# Altium integrated library TE Relays, Contactors and Switches.IntLib: 24 symbols
Pins are listed as number, name and electrical type; pins without a type are passive.

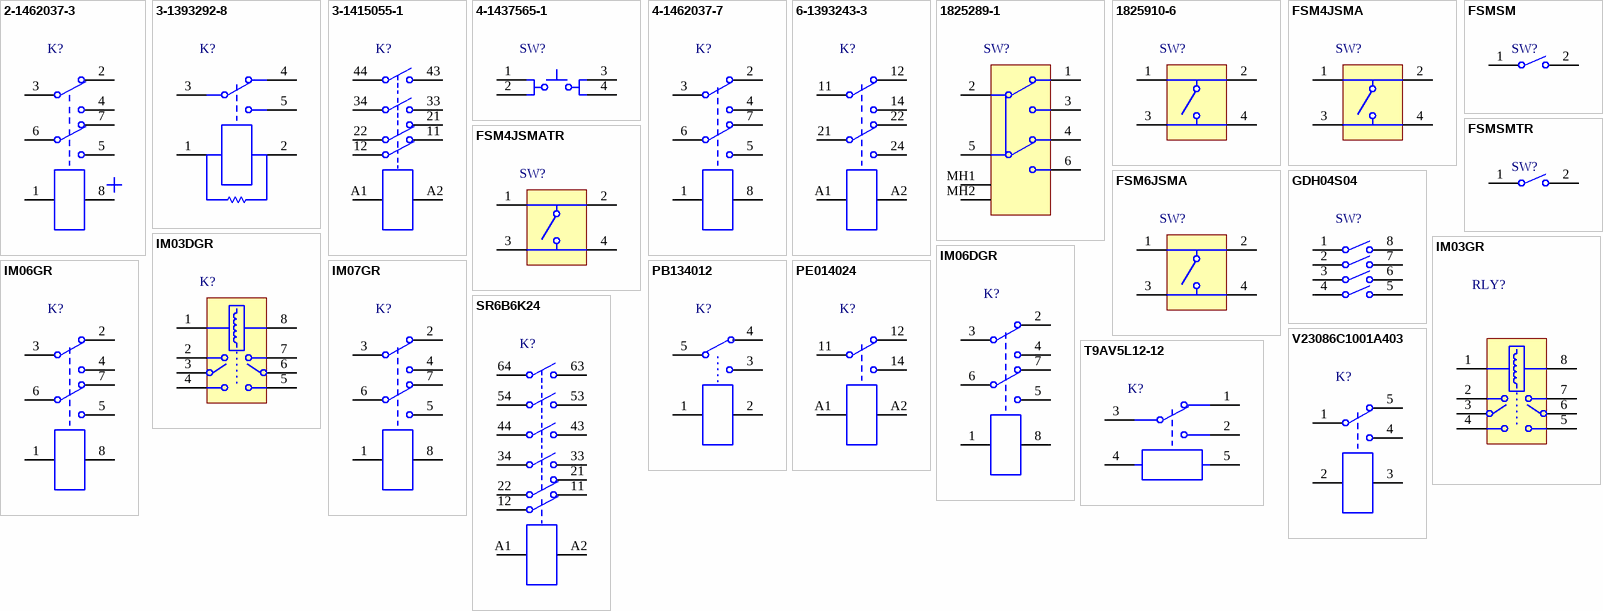
[diagram p0: symbols 2-1462037-3 to V23086C1001A403]

## 2-1462037-3
designator K?
Signal Relay, 2 A, 12 VDC, -40 to 85 degC, 8-Pin SMD, RoHS, Tape and Reel; Pick-up Voltage (Max): 9VDC; Voltage Rating (VAC): 250V; Dropout Volt: 1.2VDC; Relay Construction: Non-Latching; Product Length (mm): 10mm; Coil Suppression Diode: No; Contact Current Rating: 2A; Voltage Rating (VDC): 220; Seal: Unsealed; Contact Form: 2 Form C; Maximum Power Rating: 60W/62.5VA; Product Depth (mm): 7.5mm; Contact Arrangement: DPDT; Coil Voltage DC: 12V; Coil Resistance: 1.029kohm; Product Height (mm): 5.65mm; Operate Time: 1ms; Coil Current: 11.67mA; DatasheetVersion: Rev. 0517; PackageReference: SMD; PackageDescription: SMT, 8-Leads, Body 10x6mm; Supplier 1: Farnell; Supplier Part Number 1: 2060795; Mounting Style: Surface Mount; Packaging: Tape and Reel; Push To Test Button: No; LED Indicator: No; Pin Count: 8; Type: Signal Relay; Contact Material: Palladium Ruthenium/Gold; Operating Temp Range: -40C to 85C; Termination Style: Gull Wing; ComponentLink1Description: Manufacturer URL; ComponentLink1URL: http://www.te.com; ComponentLink2Description: Datasheet; ComponentLink2URL: http://www.te.com/commerce/DocumentDelivery/DDEController?Action=srchrtrv&DocNm=108-98001&DocType=SS&DocLang=EN
footprint TECO-2-1462037-3_V (SMT, 8-Leads, Body 10x6mm)
pins: 1, 2, 3, 4, 5, 6, 7, 8

## 3-1393292-8
designator K?
Micro Relay A, SPDT, 24 V, -40 to 125 degC, 5-Pin THD, RoHS, Bulk; Relay Construction: Non-Latching; Product Length (mm): 23 mm; Rad Hardened: No; Seal: Unsealed; Contact Form: 1 Form C; Product Depth (mm): 15.5 mm; Coil Voltage DC: 24V; Coil Resistance: 354 ohm; Product Height (mm): 25.4 mm; Operate Time: 5 ms; Coil Current: 67.79 mA; PackageReference: THD; PackageDescription: 5-Pin Through Hole Device, Body 23 x 15.5 mm; Supplier 1: Newark; Supplier Part Number 1: 10R4991; Supplier 2: Farnell; Supplier Part Number 2: 2520591; Coil Suppression Diode: No; Package / Case: Dust Cover; Mounting Style: Plug-In; Push To Test Button: No; LED Indicator: No; Pin Count: 5; Contact Arrangement: SPDT; Type: Micro ISO Relay; Contact Material: Silver Tin Oxide; Operating Temp Range: -40C to 125C; Termination Style: 0.25Quick Connect; ComponentLink1Description: Manufacturer URL; ComponentLink1URL: http://www.te.com; ComponentLink2Description: Datasheet; ComponentLink2URL: http://datasheet.octopart.com/3-1393292-8-TE-Connectivity---AMP-datasheet-60565855.pdf
footprint TECO-3-1393292-8 (THD, 5-Leads, Body 23x15.5mm)
pins: 1, 2, 3, 4, 5

## 3-1415055-1
designator K?
Force Guided Relay SR4 D/M, 24 V, 8 A, -25 to 70 degC, 10-Pin THD, RoHS, Box and Tube; Pick-up Voltage (Max): 18VDC; Voltage Rating (VAC): 400V; Dropout Volt: 2.4VDC; Relay Construction: Non-Latching; Product Length (mm): 40 mm; Rad Hardened: No; Contact Current Rating: 8 A; Seal: Unsealed; Contact Form: 2 Form A/2 Form B; Maximum Power Rating: 2KVA; Product Depth (mm): 13 mm; Contact Arrangement: DPST-NO/DPST-NC; Coil Voltage DC: 24V; Coil Resistance: 720 ohm; Product Height (mm): 16.5 mm; Coil Current: 33.33 mA; DatasheetVersion: Rev. 0415; PackageReference: THD; PackageDescription: 10-Pin Through Hole device, Body 40 x 13 mm; Supplier 1: Newark; Supplier Part Number 1: 24M7822; Supplier 2: Farnell; Supplier Part Number 2: 1175093; Supplier 3: Digi-Key; Supplier Part Number 3: PB661-ND; Dropout Volt (Min): 2.4VDC; Coil Suppression Diode: No; Package / Case: Dust Cover; Packaging: Tube; Mounting Style: Through Hole; Push To Test Button: No; LED Indicator: No; Pin Count: 10; Type: Safety Relay; Contact Material: AgSnO2; Operating Temp Range: -25C to 70C; Termination Style: PC Pin; ComponentLink1Description: Manufacturer URL; ComponentLink1URL: http://www.te.com; ComponentLink2Description: Datasheet; ComponentLink2URL: http://www.te.com/commerce/DocumentDelivery/DDEController?Action=showdoc&DocId=Data+Sheet%7FSR4_D%2FM%7F0415%7Fpdf%7FEnglish%7FENG_DS_SR4_DXM_0415.pdf%7F3-1415055-1
footprint TECO-3-1415055-1-10_V (THD, 10-Leads, Body 40x13mm)
pins: 11, 12, 21, 22, 33, 34, 43, 44, A1, A2

## 4-1437565-1
designator SW?
Tactile Switch, 50 mA, 12 VDC, -20 to 85 degC, 4-Pin SMD, RoHS, Bulk; Operating Force: 1.57 N; Maximum Contact Resistance: 100 mOhm; Electrical Life: 100000 Cycle; Body Orientation: Straight; Maximum DC Voltage Rating: 12 V; Actuator Length: 1.4 mm; Contact Rating @ Voltage: 0.05@12VDC A; Actuator Style: Round Button; Ground Terminal: No; Illumination Type: N/R; Dielectric Strength: 500 VAC; PackageReference: SMD; PackageDescription: 4-Pin Surface Mount Device, Body 6 x 6 mm, Pitch 9.1 mm; Supplier 1: Newark; Supplier Part Number 1: 93K3887; Supplier 2: Farnell; Supplier Part Number 2: 3801305; Supplier 3: Digi-Key; Supplier Part Number 3: 450-1129-ND; Base Material: N/A; Switch Configuration: N/A; Operating Temperature: -20 to 85 C; Seal Description: N/A; Seal Location: N/A; Maximum AC Voltage Rating: N/A; RoHS: Yes; Packaging: Bulk; Dimension: 6 x 10 x 5.25 mm; Mounting: Surface Mount,Gull Wing; Family: FSMJSMA; Housing Material: N/A; Actuator Color: N/A; Product Weight: N/A; Contact Plating: Silver; Type: N/A; Contact Material: Copper Alloy; Minimum Insulation Resistance: 100 MOhm; Mechanical Life: N/A; Pole Throw Configuration: N/A; ComponentLink1Description: Manufacturer URL; ComponentLink1URL: http://www.te.com; ComponentLink2Description: Datasheet; ComponentLink2URL: https://datasheet.ciiva.com/14635/0900766b80912216-14635826.pdf
footprint TECO-4-1437565-1_V (SMD, 4-Leads, Body 6x6mm, Pitch 9.1mm)
pins: 1, 2, 3, 4

## 4-1462037-7
designator K?
Signal Relay, 24 VDC, 200 mW, -40 to 85 degC, 8-Pin SMD, RoHS, Tape and Reel; Pick-up Voltage (Max): 18VDC; Voltage Rating (VAC): 250V; Dropout Volt: 2.4VDC; Relay Construction: Non-Latching; DELETED: Compliant; Product Length (mm): 10 mm; Rad Hardened: No; Contact Current Rating: 2 A; Voltage Rating (VDC): 220V; Seal: Unsealed; Contact Form: 2 Form C; Maximum Power Rating: 60W/62.5VA; Product Depth (mm): 7.5 mm; Contact Arrangement: DPDT; Coil Voltage DC: 24V; Coil Resistance: 2880 ohm; Product Height (mm): 5.65 mm; Operate Time: 1 ms; Coil Current: 8.33 mA; DatasheetVersion: Rev. 0116; PackageReference: SMD; PackageDescription: 8-Pin Surface Mount Device, Body 10 x 6 mm, Height 5.65 mm; Supplier 1: Farnell; Supplier Part Number 1: 2060825; Dropout Volt (Min): 2.4VDC; Coil Suppression Diode: No; Packaging: Tape and Reel; Mounting Style: Surface Mount; Push To Test Button: No; LED Indicator: No; Pin Count: 8; Type: Signal Relay; Contact Material: PdRu/Au; Operating Temp Range: -40C to 85C; Termination Style: Gull Wing; ComponentLink1Description: Manufacturer URL; ComponentLink1URL: http://www.te.com; ComponentLink2Description: Datasheet; ComponentLink2URL: http://www.te.com/commerce/DocumentDelivery/DDEController?Action=showdoc&DocId=Specification+Or+Standard%7F108-98001%7FW%7Fpdf%7FEnglish%7FENG_SS_108-98001_W.pdf%7F4-1462037-7
footprint TECO-IMXXXGX-8_V (SMD, 8-Leads, Body 10x6mm, Height 5.65mm)
pins: 1, 2, 3, 4, 5, 6, 7, 8

## 6-1393243-3
designator K?
Power PCB Relay RT2 DC and AC (for Global Markets), 12 V, 8 A, -40 to 85 degC, 8-Pin THD, RoHS, Tube; Pick-up Voltage (Max): 8.4VDC; Voltage Rating (VAC): 400V; Dropout Volt: 1.2VDC; Relay Construction: Non-Latching; Product Length (mm): 29mm; Coil Suppression Diode: No; Contact Current Rating: 15A; Seal: Flux; Contact Form: 2 Form C; Maximum Power Rating: 2KVA; Product Depth (mm): 12.7mm; Contact Arrangement: DPDT; Coil Voltage DC: 12V; Coil Resistance: 360ohm; Product Height (mm): 15.7mm; Operate Time: 8ms; Coil Current: 33.3mA; DatasheetVersion: Rev. 1014; PackageReference: THD; PackageDescription: 6-Pin Through Hole device, Body 29 x 12.7 mm; Supplier 1: Newark; Supplier Part Number 1: 64J9382; Package / Case: DIP; Mounting Style: Through Hole; Packaging: Tube or Box; Push To Test Button: No; LED Indicator: No; Pin Count: 8; Type: Power Relay; Contact Material: Silver Nickel 90/10; Operating Temp Range: -40C to 85C; Termination Style: PC Pin; ComponentLink1Description: Manufacturer URL; ComponentLink1URL: http://www.te.com; ComponentLink2Description: Datasheet; ComponentLink2URL: http://www.te.com/commerce/DocumentDelivery/DDEController?Action=showdoc&DocId=Data+Sheet%7FRT2%7F1014%7Fpdf%7FEnglish%7FENG_DS_RT2_1014.pdf%7F6-1393243-3
footprint TECO-6-1393243-3_V (THD, 6-Leads, Body 29x12.7mm)
pins: 11, 12, 14, 21, 22, 24, A1, A2

## 1825289-1
designator SW?
Slide Switch, MHS Series, Double Pole, Vertical, 125 V (AC), -20 to 85 degC, 6-Pin THD, RoHS, Bulk; Seal Description: Epoxy; Seal Location: Terminals; Maximum AC Voltage Rating: 125 V; Maximum Contact Resistance: 30 mOhm; Electrical Life: 15000 Cycles; Body Orientation: Straight; Contact Rating @ Voltage: 0.3@125VAC A; Actuator Style: Top Slide; Actuator Color: Black; Actuator Material: Thermoplastic; Minimum Insulation Resistance: 1000 MOhm; Pole Throw Configuration: DPDT; Dielectric Strength: 500 Vrms; PackageReference: THD; PackageDescription: 6-Pin Through Hole Device, Body 16 x 6.7 mm, Height 12.05 mm; Supplier 1: Farnell; Supplier Part Number 1: 1570883; Supplier 2: Digi-Key; Supplier Part Number 2: 450-1572-ND; Base Material: N/A; Switch Configuration: N/A; Operating Temperature: -20 to 85 C; RoHS: Yes; Packaging: Tray; Dimension: 16 x 6.7 x 12 mm; Mounting: Through Hole,PC Pins; Family: 1825289; Housing Material: N/A; Maximum DC Voltage Rating: N/A; Product Weight: N/A; Contact Plating: Silver; Type: Low Profile; Contact Material: Copper Alloy; Mechanical Life: N/A; ComponentLink1Description: Manufacturer URL; ComponentLink1URL: http://www.te.com; ComponentLink2Description: Datasheet; ComponentLink2URL: http://www.te.com/commerce/DocumentDelivery/DDEController?Action=showdoc&DocId=Catalog+Section%7F1308111-1_SWITCHES_CORE_PROGRAM_CATALOG%7F0308%7Fpdf%7FEnglish%7FENG_CS_1308111-1_SWITCHES_CORE_PROGRAM_CATALOG_0308.pdf%7F1825289-1
footprint TE-1825289-1_V (TH, 6-Leads, Body 16.05x6.75mm)
pins: 1, 2, 3, 4, 5, 6, MH1, MH2

## 1825910-6
designator SW?
Tact Switch, SPST-NO, 0.05 A, -35 to 85 degC, 4-Pin THD, RoHS, Bulk; Switch Configuration: OFF (ON); Function: Momentary Contact; Maximum Contact Resistance: 100 mOhm; Electrical Life: 100000 Cycles; Illumination: N/R; Body Orientation: Straight; Maximum DC Voltage Rating: 24 V; Actuator Length: 1.4 mm; Contact Rating @ Voltage: 0.05A@24VDC; Actuator Style: Round Button; Actuator Color: Black; Bushing Type: Unthreaded; Actuator Material: Polybutylene Terephthalate; Pole Throw Configuration: SPST; Dielectric Strength: 500 VAC; DatasheetVersion: Rev. C9; PackageReference: THD; PackageDescription: 4-Pin Through Hole Device, Body 5.99 x 5.99 mm, Pitch 6.5 mm; Supplier 1: Farnell; Supplier Part Number 1: 2456210; Supplier 2: Digi-Key; Supplier Part Number 2: 450-1650-ND; Base Material: N/A; Operating Temperature: -35 to 85 C; Seal Description: N/A; Seal Location: N/A; Maximum AC Voltage Rating: N/A; RoHS: Yes; Packaging: N/A; Dimension: 5.99 x 5 mm; Mounting: Through Hole; Terminal Type: PC Pins; Family: 1825910; Housing Material: N/A; Product Weight: N/A; Contact Plating: Silver; Thread Size: N/R; Contact Material: Copper Alloy; Minimum Insulation Resistance: 100 MOhm; Mechanical Life: 100000 Cycles; ComponentLink1Description: Manufacturer URL; ComponentLink1URL: http://www.te.com; ComponentLink2Description: Datasheet; ComponentLink2URL: http://www.te.com/commerce/DocumentDelivery/DDEController?Action=showdoc&DocId=Customer+Drawing%7F1825910%7FC9%7Fpdf%7FEnglish%7FENG_CD_1825910_C9.pdf%7F1825910-6
footprint TECO-1825910-6_V (THD, 4-Leads, Body 5.99x5.99mm, Pitch 6.5mm)
pins: 1, 2, 3, 4

## FSM4JSMA
designator SW?
Swicth, SPST, 24 V, -35 to 85 degC, 4-Pin SMD, RoHS, Tape and Reel; Switch Configuration: OFF (ON); Operating Force: 1.57 N; Maximum Contact Resistance: 100 mOhm; Electrical Life: 100000 Cycles; Body Orientation: Straight; Maximum DC Voltage Rating: 12 V; Actuator Length: 1.4 mm; Contact Rating @ Voltage: 0.05@12VDC A; Actuator Style: Round Button; Ground Terminal: No; Illumination Type: N/R; Dielectric Strength: 500 VAC; DatasheetVersion: Rev. V; PackageReference: SMD; PackageDescription: 4-Pin Surface Mount Device, Body 6 x 6 mm, Pitch 4.5 mm; Supplier 1: Farnell; Supplier Part Number 1: 3801305; Supplier 2: Digi-Key; Supplier Part Number 2: 450-1129-ND; Base Material: N/A; Operating Temperature: -20 to 85 C; Seal Description: N/A; Seal Location: N/A; Maximum AC Voltage Rating: N/A; RoHS: Yes; Packaging: Bulk; Dimension: 6 x 10 x 5.25 mm; Mounting: Surface Mount,Gull Wing; Family: FSMJSMA; Housing Material: N/A; Actuator Color: N/A; Product Weight: N/A; Contact Plating: Silver; Type: N/A; Contact Material: Copper Alloy; Minimum Insulation Resistance: 100 MOhm; Mechanical Life: N/A; Pole Throw Configuration: N/A; ComponentLink1Description: Manufacturer URL; ComponentLink1URL: http://www.te.com; ComponentLink2Description: Datasheet; ComponentLink2URL: http://www.te.com/commerce/DocumentDelivery/DDEController?Action=showdoc&DocId=Customer+Drawing%7F2-1437565-7%7FV%7Fpdf%7FEnglish%7FENG_CD_2-1437565-7_V.pdf%7F4-1437565-2
footprint TECO-FSM4JSMA_V (SMD, 4-Leads, Body 6x6mm, Pitch 4.5mm)
pins: 1, 2, 3, 4

## FSM4JSMATR
designator SW?
Micro Miniature Push Button Switch FSM JSM, 50 mA, -35 to 85 degC, 4-Pin SMD, RoHS, Tape and Reel; Switch Configuration: OFF (ON); Operating Force: 1.57 N; Maximum Contact Resistance: 100 mOhm; Electrical Life: 100000 Cycles; Body Orientation: Straight; Maximum DC Voltage Rating: 12 V; Actuator Length: 1.4 mm; Contact Rating @ Voltage: 0.05@12VDC A; Actuator Style: Round Button; Ground Terminal: No; Illumination Type: N/R; Dielectric Strength: 500 VAC; DatasheetVersion: Rev. V; PackageReference: SMD; PackageDescription: 4-Pin Surface Mount Device, Body 6 x 6 mm, Pitch 4.5 mm; Supplier 1: Farnell; Supplier Part Number 1: 2292960; Supplier 2: Farnell; Supplier Part Number 2: 2410652; Supplier 3: Farnell; Supplier Part Number 3: 2292960RL; Supplier 4: Digi-Key; Supplier Part Number 4: 450-1759-2-ND; Supplier 5: Digi-Key; Supplier Part Number 5: 450-1759-1-ND; Supplier 6: Digi-Key; Supplier Part Number 6: 450-1759-6-ND; Base Material: N/A; Operating Temperature: -20 to 85 C; Seal Description: N/A; Seal Location: N/A; Maximum AC Voltage Rating: N/A; RoHS: Yes; Packaging: Tape and Reel; Dimension: 6 x 10 x 5.25 mm; Mounting: Surface Mount,Gull Wing; Family: FSMJSMA; Housing Material: N/A; Actuator Color: N/A; Product Weight: N/A; Contact Plating: Silver; Type: N/A; Contact Material: Copper Alloy; Minimum Insulation Resistance: 100 MOhm; Mechanical Life: N/A; Pole Throw Configuration: N/A; ComponentLink1Description: Manufacturer URL; ComponentLink1URL: http://www.te.com; ComponentLink2Description: Datasheet; ComponentLink2URL: http://www.te.com/commerce/DocumentDelivery/DDEController?Action=showdoc&DocId=Customer+Drawing%7F2-1437565-7%7FV%7Fpdf%7FEnglish%7FENG_CD_2-1437565-7_V.pdf%7F4-1437565-2
footprint TECO-FSM4JSMATR_V (SMD, 4-Leads, Body 6x6mm, Pitch 4.5mm)
pins: 1, 2, 3, 4

## FSM6JSMA
designator SW?
Switch, SPST, 24 V, -35 to 85 degC, 4-Pin SMD, RoHS, Tape and Reel; Switch Configuration: OFF (ON); Operating Force: 1.57 N; Maximum Contact Resistance: 100 mOhm; Electrical Life: 100000 Cycles; Body Orientation: Straight; Maximum DC Voltage Rating: 12 V; Actuator Length: 3.4 mm; Contact Rating @ Voltage: 0.05@12VDC A; Actuator Style: Round Button; Ground Terminal: No; Illumination Type: N/R; Dielectric Strength: 500 VAC; DatasheetVersion: Rev. V; PackageReference: SMD; PackageDescription: 4-Pin Surface Mount Device, Body 6 x 6 mm, Pitch 4.5 mm; Supplier 1: Farnell; Supplier Part Number 1: 1555991; Supplier 2: Digi-Key; Supplier Part Number 2: 450-1133-ND; Base Material: N/A; Operating Temperature: -20 to 85 C; Seal Description: N/A; Seal Location: N/A; Maximum AC Voltage Rating: N/A; RoHS: Yes; Packaging: Bulk; Dimension: 6 x 10 x 7.25 mm; Mounting: Surface Mount,Gull Wing; Family: FSMJSMA; Housing Material: N/A; Actuator Color: N/A; Product Weight: N/A; Contact Plating: Silver; Type: N/A; Contact Material: Copper Alloy; Minimum Insulation Resistance: 100 MOhm; Mechanical Life: N/A; Pole Throw Configuration: N/A; ComponentLink1Description: Manufacturer URL; ComponentLink1URL: http://www.te.com; ComponentLink2Description: Datasheet; ComponentLink2URL: http://www.te.com/commerce/DocumentDelivery/DDEController?Action=showdoc&DocId=Customer+Drawing%7F2-1437565-7%7FV%7Fpdf%7FEnglish%7FENG_CD_2-1437565-7_V.pdf%7F4-1437565-9
footprint TECO-FSM6JSMA_V (SMD, 4-Leads, Body 6x6mm, Pitch 4.5mm)
pins: 1, 2, 3, 4

## FSMSM
designator SW?
FSMSM Push Button Switch, 50 mA, -35 to 85 degC, 2-Pin SMD, RoHS, Bulk; Switch Configuration: OFF (ON); Maximum Contact Resistance: 100 mOhm; Electrical Life: 20000 Cycles; Body Orientation: Straight; Maximum DC Voltage Rating: 12 V; Actuator Length: 1.07 mm; Contact Rating @ Voltage: 0.05@12VDC A; Actuator Style: Rectangular Button; Actuator Color: Black; Ground Terminal: No; Illumination Type: N/R; Minimum Insulation Resistance: 500 MOhm; Pole Throw Configuration: SPST; Dielectric Strength: 500 VAC; DatasheetVersion: Rev. C2; PackageReference: SMD; PackageDescription: 2-Pin Surface Mount Device, Body 6 x 3.5 mm, Pitch 9.19 mm; Supplier 1: Farnell; Supplier Part Number 1: 1703878; Supplier 2: Digi-Key; Supplier Part Number 2: 450-1140-ND; Base Material: N/A; Operating Temperature: -30 to 85 C; Seal Description: N/A; Operating Force: N/A; Seal Location: N/A; Maximum AC Voltage Rating: N/A; RoHS: Yes; Packaging: Loose Piece; Dimension: 3.5 x 4.57 mm; Mounting: Surface Mount,Gull Wing; Family: FSMSM; Housing Material: N/A; Product Weight: N/A; Contact Plating: Silver; Type: N/A; Contact Material: Stainless Steel; Mechanical Life: N/A; ComponentLink1Description: Manufacturer URL; ComponentLink1URL: http://www.te.com; ComponentLink2Description: Datasheet; ComponentLink2URL: http://www.te.com/commerce/DocumentDelivery/DDEController?Action=showdoc&DocId=Customer+Drawing%7F1437566-3%7FC2%7Fpdf%7FEnglish%7FENG_CD_1437566-3_C2_1437566_3_1_c.dwg.pdf%7F1437566-3
footprint TECO-FSMSM-2_V (SMD, 2-Leads, Body 6x3.5mm, Pitch 9.19mm)
pins: 1, 2

## FSMSMTR
designator SW?
FSMSM Push Button Switch, 50 mA, -35 to 85 degC, 2-Pin SMD, RoHS, Tape and Reel; Switch Configuration: OFF (ON); Operating Force: 1.77 N; Maximum Contact Resistance: 100 mOhm; Electrical Life: 20000 Cycles; Body Orientation: Straight; Maximum DC Voltage Rating: 12 V; Actuator Length: 0.8 mm; Contact Rating @ Voltage: 0.05@12VDC A; Actuator Style: Rectangular Button; Ground Terminal: No; Illumination Type: N/R; Pole Throw Configuration: SPST; Dielectric Strength: 500 VAC; DatasheetVersion: Rev. C2; PackageReference: SMD; PackageDescription: 2-Pin Surface Mount Device, Body 6 x 3.5 mm, Pitch 9.19 mm; Supplier 1: Farnell; Supplier Part Number 1: 2469913; Supplier 2: Digi-Key; Supplier Part Number 2: 450-1758-2-ND; Supplier 3: Digi-Key; Supplier Part Number 3: 450-1758-1-ND; Supplier 4: Digi-Key; Supplier Part Number 4: 450-1758-6-ND; Base Material: N/A; Operating Temperature: -40 to 85 C; Seal Description: N/A; Seal Location: N/A; Maximum AC Voltage Rating: N/A; RoHS: Yes; Packaging: Tape and Reel; Dimension: 3.5 x 4.3 mm; Mounting: Surface Mount,Gull Wing; Family: FSMSM; Housing Material: N/A; Actuator Color: N/A; Product Weight: N/A; Contact Plating: Silver Clad; Type: N/A; Contact Material: Stainless Steel; Minimum Insulation Resistance: 100 MOhm; Mechanical Life: N/A; ComponentLink1Description: Manufacturer URL; ComponentLink1URL: http://www.te.com; ComponentLink2Description: Datasheet; ComponentLink2URL: http://www.te.com/commerce/DocumentDelivery/DDEController?Action=showdoc&DocId=Customer+Drawing%7F1437566-3%7FC2%7Fpdf%7FEnglish%7FENG_CD_1437566-3_C2_1437566_3_1_c.dwg.pdf%7F1437566-4
footprint TECO-FSMSMTR_V (SMD, 2-Leads, Body 6x3.5mm, Pitch 9.19mm)
pins: 1, 2

## GDH04S04
designator SW?
Switch, SPST, 25 mA, 24 VDC, -30 to 85 degC, 8-Pin SMD, RoHS, Tape and Reel; Thread Length: N/R; Maximum Non Switching Current: 100 mA; Maximum Contact Resistance: 100 mOhm; Total Pitch: 3.81 mm; Number of Positions: 4; Electrical Life: 1000 Cycles; Body Orientation: Straight; Maximum DC Voltage Rating: 24 V; Actuator Length: 0 mm; Contact Rating @ Voltage: 0.025@24VDC A; Actuator Style: Recessed Rocker; Row Space: 7.59 mm; Actuator Material: Liquid Crystal Polymer; Dielectric Strength: 300 VAC; DatasheetVersion: Rev. C6; PackageReference: SMD; PackageDescription: 8-Pin Surface Mount Device, Body 6.2 x 6.2 mm, Pitch 1.27  mm; Supplier 1: Farnell; Supplier Part Number 1: 1123953; Operating Temperature: -30 to 85 C; Seal Description: Tape; Seal Location: N/A; Maximum AC Voltage Rating: N/A; RoHS: Yes; Packaging: N/A; Dimension: 6.2 x 8.13 x 2.3 mm; Mounting: Surface Mount; Terminal Type: Gull Wing; Family: 1571983; Terminal Pitch: 1.27 mm; Product Weight: N/A; Contact Plating: Gold/Nickel; Contact Material: Copper Alloy; Minimum Insulation Resistance: 100 MOhm; Mechanical Life: N/A; Pole Throw Configuration: SPST; ComponentLink1Description: Manufacturer URL; ComponentLink1URL: http://www.te.com; ComponentLink2Description: Datasheet; ComponentLink2URL: http://www.te.com/commerce/DocumentDelivery/DDEController?Action=showdoc&DocId=Customer+Drawing%7F1571983%7FC6%7Fpdf%7FEnglish%7FENG_CD_1571983_C6.pdf%7F1571983-4
footprint TECO-GDH04S04_V (SMD, 8-Leads, Body 6.2x6.2mm, Pitch 1.27mm)
pins: 1, 2, 3, 4, 5, 6, 7, 8

## IM03DGR
designator K?
2 Form C, Monostable IM Relay, 5 A, 5 V, -40 to 85 degC, 8-Pin SMT(Gull wings), RoHS, Tape and Reel; Relay Mounting: SMD; Contact Voltage VAC: 250V; Product Range: IM Series; Contact Current: 5A; Coil Type: Non Latching; Relay Terminals: Solder; Contact Voltage VDC: 220V; Contact Configuration: DPDT; Coil Resistance: 178ohm; Coil Voltage: 5VDC; SVHC: To Be Advised; DatasheetVersion: Rev. 0713; PackageReference: SMD; PackageDescription: 8-Pin Surface Mount Device, Body 10 x 6 mm, Height 5.65 mm; Supplier 1: Newark; Supplier Part Number 1: 03P2189; Supplier 2: Farnell; Supplier Part Number 2: 1629011; Approvals & Standards: -; Contact Material: Silver Nickel; Mounting Technology: Surface Mount; ComponentLink1Description: Manufacturer URL; ComponentLink1URL: http://www.te.com; ComponentLink2Description: Datasheet; ComponentLink2URL: http://www.te.com/commerce/DocumentDelivery/DDEController?Action=showdoc&DocId=Specification+Or+Standard%7F108-98001%7FS%7Fpdf%7FEnglish%7FENG_SS_108-98001_S.pdf%7F1-1462038-1
footprint TECO-IMXXXGX-8_V (SMD, 8-Leads, Body 10x6mm, Height 5.65mm)
pins: 1, 2, 3, 4, 5, 6, 7, 8

## IM03GR
designator RLY?
Low Power Consumption, High Dielectric, High Mechanical Shock Resistance, IM Relay; Catalog Drawings: IM Series No Latching / IM Series Gull Wing / IM Series Gull Wing Footprint; Turn Off Voltage (Min): 0.5 VDC; Coil Voltage: 5VDC; Dynamic Catalog: IM, AXICOM Series; Other Names: IM03GR-ND / PB1061 / PB1061-ND / PB1061CT; Turn On Voltage (Max): 3.75 VDC; 3D Model: 1462037-2.pdf; Contact Form: DPDT (2 Form C); Featured Product: Plug-In Relays / IM Signal Relays; Switching Voltage: 250VAC, 220VDC - Max; Coil Power: 140 mW; Relay Type: Telecom; Coil Type: Non Latching; Coil Resistance: 178 Ohms; Operate Time: 3ms; Coil Current: 28mA; Contact Rating (Current): 2A; DatasheetVersion: Rev. 0411; PackageReference: SMD; PackageDescription: Relay, 8-Leads, Body 10x6mm, Height 5.65mm, Pitch 2.2mm; Supplier 1: Newark; Supplier Part Number 1: 19K8733; Supplier 2: Farnell; Supplier Part Number 2: 1175069; Supplier 3: Digi-Key; Supplier Part Number 3: PB1061TR-ND; Supplier 4: Digi-Key; Supplier Part Number 4: PB1061CT-ND; Supplier 5: Digi-Key; Supplier Part Number 5: PB1061DKR-ND; Features: Sealed - Hermetically; Operating Temperature: -40°C ~ 85°C; Packaging: Cut Tape (CT); Family: Signal Relays, Up to 2 Amps; Mounting Type: Surface Mount; Contact Material: Palladium (Pd), Ruthenium (Ru), Gold (Au); Series: IM, AXICOM; Termination Style: Gull Wing; Standard Package: 1; Category: Relays; Release Time: 3ms; ComponentLink1Description: Manufacturer URL; ComponentLink1URL: http://www.te.com; ComponentLink2Description: Datasheet; ComponentLink2URL: http://www.te.com/commerce/DocumentDelivery/DDEController?Action=showdoc&DocId=Specification+Or+Standard%7F108-98001%7FS%7Fpdf%7FEnglish%7FENG_SS_108-98001_S.pdf%7F1-1462037-4
footprint TECO-IM-8G-WING (Relay, 8-Leads, Body 10x6mm, Height 5.65mm, Pitch 2.2mm)
pins: 1, 2, 3, 4, 5, 6, 7, 8

## IM06DGR
designator K?
Signal Relay, 5 A, 12 VDC, -40 to 85 degC, 8-Pin SMD, RoHS, Tape and Reel; Approval Bodies: EN / IEC; Contact Current Max: 5A; Insulation Resistance Voltage: 500V DC; Switching Voltage AC / DC Min: 100µV; External Width: 6mm; Contact Current DC Max: 2A; Dielectric Voltage Coil to Contact: 1800V; DC Coil Power: 140mW; Contact Voltage AC Nom: 250V; Coil Voltage VDC Nom: 12V; Switching Voltage Max: 220V DC; Insulation Resistance: 1000Mohm; Switch Power Max: 60W; Dielectric Voltage Contact to Contact: 1000V; Contact Voltage DC Nom: 220V; Contact Resistance: 50mohm; Approval Category: UL Recognised; Switching Power Max: 62.5VA; No. of Poles: 2; Operating Voltage Range: 9V to 28.9V; External Length / Height: 5.65mm; Coil Type: DC; External Depth: 10mm; Coil Resistance: 1.028kohm; Switching Voltage AC / DC Max: 250V AC; Contact Configuration: DPCO; No. of Pins: 8; DatasheetVersion: Rev. 0411; PackageReference: SMD; PackageDescription: 8-Pin Surface Mount Device, Body 10 x 6 mm; Supplier 1: Newark; Supplier Part Number 1: 03P2191; Supplier 2: Farnell; Supplier Part Number 2: 1629012; Operating Temperature Min: -40°C; Relay Mounting: SMD; Coil Power Cont: 140mW; Contact Current AC Max: 2A; MSL: MSL 3 - 168 hours; Mounting Type: SMT; Series: IM; Operating Temperature Max: 85°C; External Height: 5.65mm; ComponentLink1Description: Manufacturer URL; ComponentLink1URL: http://www.te.com; ComponentLink2Description: Datasheet; ComponentLink2URL: http://www.farnell.com/datasheets/1717896.pdf
footprint TECO-SMT-8_V (SMT, 8-Leads, Body 10x6 mm)
pins: 1, 2, 3, 4, 5, 6, 7, 8

## IM06GR
designator K?
2 Form C, IM Relay, 2 A, 12 V, -40 to 85 degC, 8-Pin SMD, RoHS, Tape and Reel; Contact Voltage VAC: 250V; Product Range: IM Series; Contact Current: 2A; Coil Type: Non Latching; Relay Terminals: Solder; Contact Voltage VDC: 220V; Contact Configuration: DPDT; Coil Resistance: 1.029kohm; Coil Voltage: 12VDC; SVHC: To Be Advised; DatasheetVersion: Rev. 0411; PackageReference: SMD; PackageDescription: 8-Pin Surface Mount Device, Body 10 x 6 mm; Supplier 1: Newark; Supplier Part Number 1: 19K8742; Supplier 2: Newark; Supplier Part Number 2: 64M6677; Supplier 3: Newark; Supplier Part Number 3: 34M6462; Supplier 4: Farnell; Supplier Part Number 4: 1175070; Supplier 5: Farnell; Supplier Part Number 5: 2413570; Supplier 6: Farnell; Supplier Part Number 6: 1175070RL; Supplier 7: Digi-Key; Supplier Part Number 7: PB1062TR-ND; Supplier 8: Digi-Key; Supplier Part Number 8: PB1062CT-ND; Supplier 9: Digi-Key; Supplier Part Number 9: PB1062DKR-ND; Relay Mounting: SMD; Approvals & Standards: -; Contact Material: Palladium Ruthenium; Mounting Technology: Surface Mount; ComponentLink1Description: Manufacturer URL; ComponentLink1URL: http://www.te.com; ComponentLink2Description: Datasheet; ComponentLink2URL: http://www.mouser.com/catalog/specsheets/ENG_SS_108-98001_S%5B1%5D.pdf
footprint TECO-SMT-8_V (SMT, 8-Leads, Body 10x6 mm)
pins: 1, 2, 3, 4, 5, 6, 7, 8

## IM07GR
designator K?
IM Relay, 2 A, 24 V, -40 to 85 degC, 8-Pin SMD, RoHS, Tape and Reel; Contact Voltage VAC: 250V; Product Range: IM Series; Contact Current: 2A; Coil Type: Non Latching; Relay Terminals: Solder; Contact Voltage VDC: 220V; Contact Configuration: DPDT; Coil Resistance: 2.88kohm; Coil Voltage: 24VDC; SVHC: To Be Advised; DatasheetVersion: Rev. 0713; PackageReference: SMD; PackageDescription: 8-Pin Surface Mount Device, Body 10 x 6 mm; Supplier 1: Newark; Supplier Part Number 1: 19K8745; Supplier 2: Newark; Supplier Part Number 2: 64M6681; Supplier 3: Newark; Supplier Part Number 3: 34M6463; Supplier 4: Farnell; Supplier Part Number 4: 1326154; Supplier 5: Farnell; Supplier Part Number 5: 2413571; Supplier 6: Digi-Key; Supplier Part Number 6: PB1090TR-ND; Supplier 7: Digi-Key; Supplier Part Number 7: PB1090CT-ND; Supplier 8: Digi-Key; Supplier Part Number 8: PB1090DKR-ND; Relay Mounting: SMD; Approvals & Standards: -; Contact Material: Palladium Ruthenium; Mounting Technology: Surface Mount; ComponentLink1Description: Manufacturer URL; ComponentLink1URL: http://www.te.com; ComponentLink2Description: Datasheet; ComponentLink2URL: https://datasheet.ciiva.com/22693/1776660-22693398.pdf
footprint RELAY-IM07GR-8_V (SMD, 8-Leads, Body 10x6mm)
pins: 1, 2, 3, 4, 5, 6, 7, 8

## PB134012
designator K?
Miniature Power PCB Relay PB, 1 Form A Contact, 12 V, 10 A, 360 mW, Standard Version, -40 to 85 degC, 5-Pin 15 x 15 x 20 mm THD, RoHS, Tube; Contact Form: 1 Form A (SPST-NO); Contact Current Rating: 10 A; Coil Resistance: 400 Ohms; Coil Voltage: 24 V; DatasheetVersion: Rev. 0411; PackageReference: THD; Supplier 1: Newark; Supplier Part Number 1: 15AC8464; Supplier 2: Farnell; Supplier Part Number 2: 2748039; Supplier 3: Digi-Key; Supplier Part Number 3: PB768-ND; Contact Material: Silver Nickel; Mounting Style: Through Hole; Mounting Technology: Through Hole; ComponentLink1Description: Manufacturer URL; ComponentLink1URL: http://www.te.com; ComponentLink2Description: Datasheet; ComponentLink2URL: http://www.te.com/commerce/DocumentDelivery/DDEController?Action=showdoc&DocId=Data+Sheet%7FPB%7F0411%7Fpdf%7FEnglish%7FENG_DS_PB_0411.pdf%7F2-1415030-1
footprint TECO-PB134-5_V (THD, 5-Leads, Body 15x15mm, Height 20mm)
pins: 1 A1, 2 A2, 3 14, 4 12, 5 11

## PE014024
designator K?
General Purpose Relay, 5 A, 24 VDC, -40 to 85 degC, 5-Pin THD, RoHS, Tube; Coil Current: 5 A; Contact Form: 1 Form C (SPDT-BM); Coil Resistance: 2.725 kOhms; Coil Voltage: 24 V; DatasheetVersion: Rev. 0117; PackageReference: THD; PackageDescription: 5-Pin Through Hole Device, Body 20 x 10 mm; Supplier 1: Newark; Supplier Part Number 1: 36K3450; Supplier 2: Newark; Supplier Part Number 2: 96K3515; Supplier 3: Farnell; Supplier Part Number 3: 1175009; Supplier 4: Digi-Key; Supplier Part Number 4: PB355-ND; Contact Current Rating: 5 A; Contact Material: Silver Nickel; Mounting Style: Through Hole; Mounting Technology: Through Hole; ComponentLink1Description: Manufacturer URL; ComponentLink1URL: http://www.te.com; ComponentLink2Description: Datasheet; ComponentLink2URL: http://www.te.com/commerce/DocumentDelivery/DDEController?Action=showdoc&DocId=Data+Sheet%7FPE%7F0117%7Fpdf%7FEnglish%7FENG_DS_PE_0117.pdf%7F1-1393219-0
footprint TECO-PE014024_V (THD, 5-Leads, Body 20x10mm)
pins: 11, 12, 14, A1 (power), A2 (power)

## SR6B6K24
designator K?
Force Guided Relay SR6 A/B/C/V, 24 V, 8 A, -25 to 70 degC,14-Pin THD, RoHS, Box and Tube; Pick-up Voltage (Max): 18VDC; Voltage Rating (VAC): 400V; Dropout Volt: 2.4VDC; Relay Construction: Non-Latching; Product Length (mm): 55mm; Coil Suppression Diode: No; Contact Current Rating: 8A; Seal: Unsealed; Contact Form: 4 Form A/2 Form B; Maximum Power Rating: 2KVA; Product Depth (mm): 16.5mm; Contact Arrangement: 4PST-NO/DPST-NC; Coil Voltage DC: 24V; Coil Resistance: 720ohm; Coil Current: 33.33mA; DatasheetVersion: Rev. 0617; PackageReference: THD; PackageDescription: 14-Pin Through Hole device, Body 55 x 16.5 mm; Supplier 1: Newark; Supplier Part Number 1: 51R7439; Supplier 2: Farnell; Supplier Part Number 2: 1770630; Supplier 3: Digi-Key; Supplier Part Number 3: PB1313-ND; Package / Case: Dust Cover; Mounting Style: Through Hole; Packaging: Box; Push To Test Button: No; LED Indicator: No; Pin Count: 14; Type: Safety Relay; Contact Material: Silver Tin Oxide/Gold; Operating Temp Range: -25C to 70C; Termination Style: PC Pin; Product Height (mm): 16.5mm; ComponentLink1Description: Manufacturer URL; ComponentLink1URL: http://www.te.com; ComponentLink2Description: Datasheet; ComponentLink2URL: http://www.te.com/commerce/DocumentDelivery/DDEController?Action=showdoc&DocId=Data+Sheet%7FSR6%7F0617%7Fpdf%7FEnglish%7FENG_DS_SR6_0617.pdf%7F8-1415537-0
footprint TECO-SR6B6K24-14_V (THD, 14-Leads, Body 55x16.5mm)
pins: 11, 12, 21, 22, 33, 34, 43, 44, 53, 54, 63, 64, A1, A2

## T9AV5L12-12
designator K?
General Purpose Relay, SPDT (1 Form C, 1 CO), 12 VDC, 900 mW, 5-Pin THD, RoHS, Tray; Switching Voltage: 277 VAC; Contact Form: 1 Form C (SPDT-BM); Contact Current Rating: 20 A; Coil Resistance: 155 Ohms; Coil Voltage: 12 V; DatasheetVersion: Rev. 0214; PackageReference: THD; Supplier 1: Newark; Supplier Part Number 1: 34R9918; Supplier 2: Digi-Key; Supplier Part Number 2: T9AV5L12-12-ND; Contact Material: Silver Cadmium Oxide; Mounting Style: Through Hole; Mounting Technology: Through Hole; ComponentLink1Description: Manufacturer URL; ComponentLink1URL: http://www.te.com; ComponentLink2Description: Datasheet; ComponentLink2URL: http://www.onlinecomponents.com/productFiles/mf-PB/9872eng_ds_1308242_t9a_0806.pdf
footprint TE-T9AV5L-5_V (Relay, 5-Leads, Body 32.51x27.43mm)
pins: 1, 2, 3, 4 (power), 5 (power)

## V23086C1001A403
designator K?
TE Connectivity SPDT PCB Mount Automotive Relay, 12V DC Coil, -40 to 105 degC, 5-Pin THD, RoHS; Relay Mounting: Through Hole; Product Range: Micro Relay K Series; Contact Current: 30A; External Width: 12 / mm; Contact Current Max: 30 / A; Relay Terminals: Solder; Coil Resistance: 254ohm; Coil Voltage: 12VDC; External Height: 9.9 / mm; External Depth: 12.9 / mm; SVHC: To Be Advised; DatasheetVersion: Rev. 0717; PackageReference: THD; PackageDescription: 5-Leads Through Hole Device, Body 12 x 12.9 mm; Supplier 1: Newark; Supplier Part Number 1: 86K0343; Supplier 2: Farnell; Supplier Part Number 2: 9659013; Coil Voltage VDC Nom: 12 / V; Contact Voltage DC Nom: 12V; Contact Material: Silver Tin Oxide; Contact Configuration: SPDT; Mounting Technology: Through Hole; ComponentLink1Description: Manufacturer URL; ComponentLink1URL: http://www.te.com; ComponentLink2Description: Datasheet; ComponentLink2URL: http://www.te.com.cn/commerce/DocumentDelivery/DDEController?Action=showdoc&DocId=Data+Sheet%7FV23086-X0000-A001%7F0717%7Fpdf%7FEnglish%7FENG_DS_V23086-X0000-A001_0717.pdf%7F1393280-6
footprint RELAY_SPDT_5 (Relay, 5-Leads, Body 12x13mm)
pins: 1, 2, 3, 4, 5